# Altium schematic symbol library TSW-102-05-T-S.SchLib: 2 symbols
Pins are listed as number, name and electrical type; pins without a type are passive.

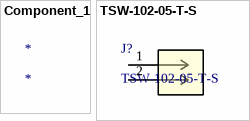
[diagram p0: symbols Component_1 to TSW-102-05-T-S]

## Component_1
designator *

## TSW-102-05-T-S
designator J?
No Description Available; Mfr_Name: Samtec Inc; Copyright: Copyright (C) 2022 Ultra Librarian. All rights reserved.; Manufacturer_Part_Number: TSW-102-05-T-S; Digi-Key_Part_Number_1: SAM1019-02-ND; Digi-Key_Part_Number_2: TSW-102-05-T-S-NDL; Digi-Key_Part_Number_3: 612-TSW-102-05-T-S-ND; RefDes: RefDes; Type: DEV
footprint CON2_1X2_TU_TSW
pins: 1, 2